# Altium footprint library CDRH127-4R7NC.PcbLib: 1 footprints
Each footprint in its own frame and in the unit in brackets; x right, y up, seen from the top. Pads: shape width x height; smd on the part's side, far side on the other; paste and mask are expansions set on the pad; w line width, h text height; cw(c..) or ccw(c..) is an arc to the next point about the centre after c.
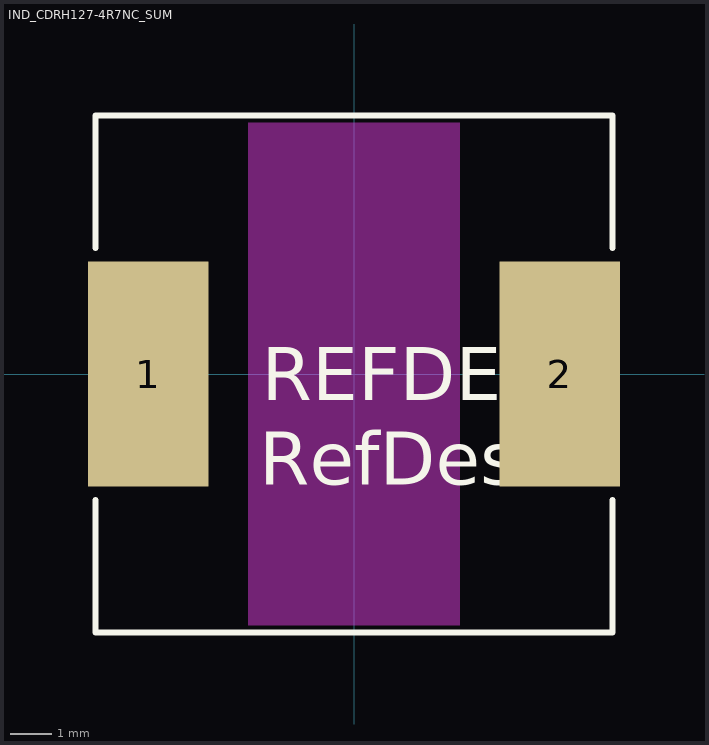
[diagram p0: the footprint, top view; thin cyan lines are the x and y axes]

## IND_CDRH127-4R7NC_SUM [mil]
pads (2):
  rect 114x213 smd paste+0 mask+0: 1(-195,0) 2(195,0)
Top Layer keep-out:
  region: -100,-238 -100,238 100,238 100,-238
Top Overlay:
  lines w6: -245,-119.6 -245,-245 245,-245 245,-119.6 ; -245,119.6 -245,245 245,245 245,119.6
  text "RefDes" at -90,-105 h50
  text "REFDES" at -87.5,-25 h50
3D body "IND_CDRH127-4R7NC_SUM.step": height 315, standoff 0, extent -240,-240.12 240,240.12